# Altium integrated library AYZ0102AGRLC.IntLib: 1 symbol
Pins are listed as number, name and electrical type; pins without a type are passive.

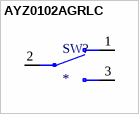
[diagram p0: symbol AYZ0102AGRLC]

## AYZ0102AGRLC
designator SW?
Slide Switch SPDT Surface Mount, Right Angle; MF: C&K; MP: AYZ0102AGRLC; Digi-Key_Part_Number: 401-2012-1-ND; Package: None; SnapEDA_Link: https://www.snapeda.com/parts/AYZ0102AGRLC/C%26K/view-part/50616/?ref=snap; Digi-Key_Purchase_URL: https://www.digikey.com/product-detail/en/c-k/AYZ0102AGRLC/401-2012-1-ND/1640121?utm_source=snapeda&utm_medium=aggregator&utm_campaign=symbol; Value: *
footprint SW_AYZ0102AGRLC
pins: 1, 2, 3